# EAGLE library part DRV8300DIPWR (library DRV8300DIPWR)
DRV8300DIPWR Source: Datasheet <https://www.ti.com/lit/gpn/drv8300?HQS=ti-null-null-sf-df-pf-sep-wwe&DCM=yes>
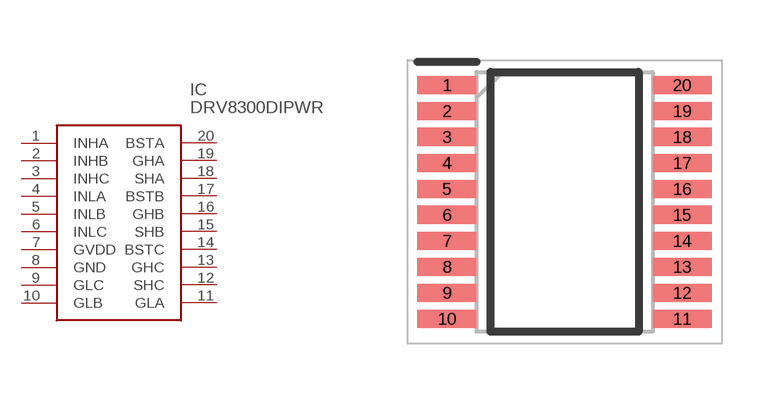
[diagram p0: symbol with the pads of SOP65P640X120-20N; footprint SOP65P640X120-20N]

Designator prefix IC

## DRV8300DIPWR (Arrow_Part_Number: DRV8300DIPWR; Arrow_Price-Stock: https://www.arrow.com/en/products/drv8300dipwr/texas-instruments?region=nac; Description: DRV8300DIPWR; Height: 1.2mm; Manufacturer_Name: Texas Instruments; Manufacturer_Part_Number: DRV8300DIPWR; Mouser_Part_Number: 595-DRV8300DIPWR; Mouser_Price-Stock: https://www.mouser.co.uk/ProductDetail/Texas-Instruments/DRV8300DIPWR?qs=CiayqK2gdcI4er0Qz5HSWg%3D%3D)  [SOP65P640X120-20N]
1  INHA
2  INHB
3  INHC
4  INLA
5  INLB
6  INLC
7  GVDD
8  GND
9  GLC
10  GLB
11  GLA
12  SHC
13  GHC
14  BSTC
15  SHB
16  GHB
17  BSTB
18  SHA
19  GHA
20  BSTA

## Footprint SOP65P640X120-20N (pad centres in mm)
PW
smd 1.475 x 0.45: 1 -2.938,2.925; 2 -2.938,2.275; 3 -2.938,1.625; 4 -2.938,0.975; 5 -2.938,0.325; 6 -2.938,-0.325; 7 -2.938,-0.975; 8 -2.938,-1.625; 9 -2.938,-2.275; 10 -2.938,-2.925; 11 2.938,-2.925; 12 2.938,-2.275; 13 2.938,-1.625; 14 2.938,-0.975; 15 2.938,-0.325; 16 2.938,0.325; 17 2.938,0.975; 18 2.938,1.625; 19 2.938,2.275; 20 2.938,2.925